# Altium footprint library FQFP (0.5mm Pitch, Square) - Corner Index.PcbLib: 44 footprints (part 3 of 4)
Each footprint in its own frame and in the unit in brackets; x right, y up, seen from the top. Pads: shape width x height; smd on the part's side, far side on the other; paste and mask are expansions set on the pad; w line width, h text height; cw(c..) or ccw(c..) is an arc to the next point about the centre after c.
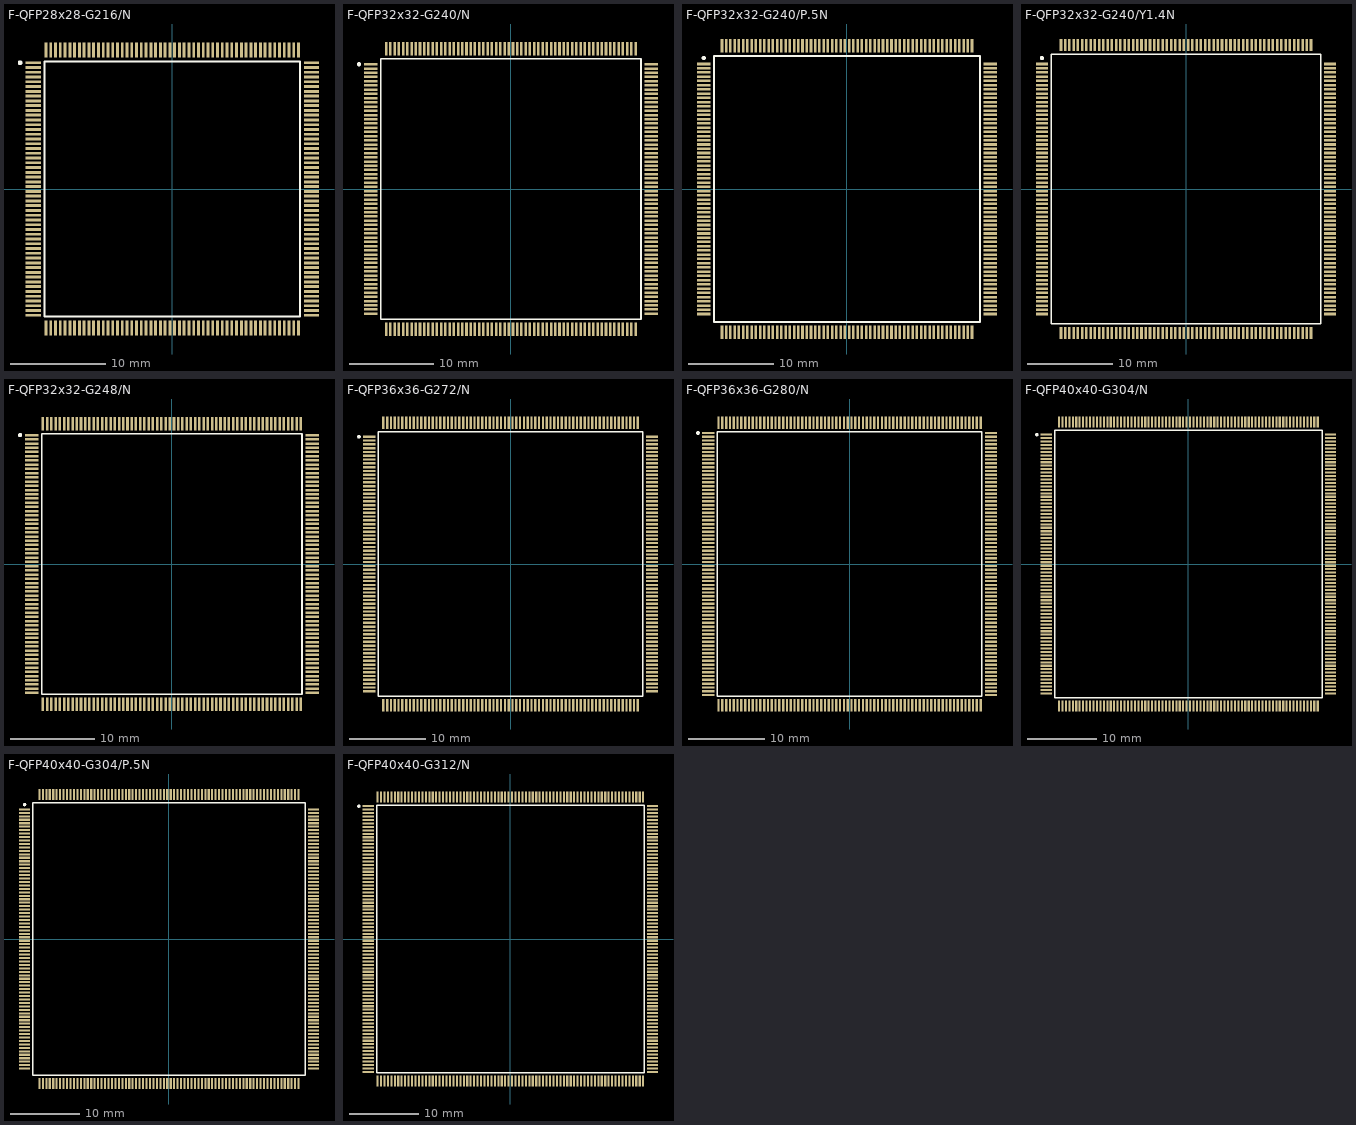
[diagram p2: the footprints below, top view; thin cyan lines are the x and y axes]

## F-QFP28x28-G216/N [mm] "QFP; 216 Leads; Body 28 x 28 mm; Pitch 0.5 mm"
height 3.75
pads (216):
  rect 1.6x0.3 smd: 1(-14.6,13.25) 2(-14.6,12.75) 3(-14.6,12.25) 4(-14.6,11.75) 5(-14.6,11.25) 6(-14.6,10.75) 7(-14.6,10.25) 8(-14.6,9.75) 9(-14.6,9.25) 10(-14.6,8.75) 11(-14.6,8.25) 12(-14.6,7.75) 13(-14.6,7.25) 14(-14.6,6.75) 15(-14.6,6.25) 16(-14.6,5.75) 17(-14.6,5.25) 18(-14.6,4.75) 19(-14.6,4.25) 20(-14.6,3.75) 21(-14.6,3.25) 22(-14.6,2.75) 23(-14.6,2.25) 24(-14.6,1.75) 25(-14.6,1.25) 26(-14.6,0.75) 27(-14.6,0.25) 28(-14.6,-0.25) 29(-14.6,-0.75) 30(-14.6,-1.25) 31(-14.6,-1.75) 32(-14.6,-2.25) 33(-14.6,-2.75) 34(-14.6,-3.25) 35(-14.6,-3.75) 36(-14.6,-4.25) 37(-14.6,-4.75) 38(-14.6,-5.25) 39(-14.6,-5.75) 40(-14.6,-6.25) 41(-14.6,-6.75) 42(-14.6,-7.25) 43(-14.6,-7.75) 44(-14.6,-8.25) 45(-14.6,-8.75) 46(-14.6,-9.25) 47(-14.6,-9.75) 48(-14.6,-10.25) 49(-14.6,-10.75) 50(-14.6,-11.25) 51(-14.6,-11.75) 52(-14.6,-12.25) 53(-14.6,-12.75) 54(-14.6,-13.25) 109(14.6,-13.25) 110(14.6,-12.75) 111(14.6,-12.25) 112(14.6,-11.75) 113(14.6,-11.25) 114(14.6,-10.75) 115(14.6,-10.25) 116(14.6,-9.75) 117(14.6,-9.25) 118(14.6,-8.75) 119(14.6,-8.25) 120(14.6,-7.75) 121(14.6,-7.25) 122(14.6,-6.75) 123(14.6,-6.25) 124(14.6,-5.75) 125(14.6,-5.25) 126(14.6,-4.75) 127(14.6,-4.25) 128(14.6,-3.75) 129(14.6,-3.25) 130(14.6,-2.75) 131(14.6,-2.25) 132(14.6,-1.75) 133(14.6,-1.25) 134(14.6,-0.75) 135(14.6,-0.25) 136(14.6,0.25) 137(14.6,0.75) 138(14.6,1.25) 139(14.6,1.75) 140(14.6,2.25) 141(14.6,2.75) 142(14.6,3.25) 143(14.6,3.75) 144(14.6,4.25) 145(14.6,4.75) 146(14.6,5.25) 147(14.6,5.75) 148(14.6,6.25) 149(14.6,6.75) 150(14.6,7.25) 151(14.6,7.75) 152(14.6,8.25) 153(14.6,8.75) 154(14.6,9.25) 155(14.6,9.75) 156(14.6,10.25) 157(14.6,10.75) 158(14.6,11.25) 159(14.6,11.75) 160(14.6,12.25) 161(14.6,12.75) 162(14.6,13.25)
  rect 0.3x1.6 smd: 55(-13.25,-14.6) 56(-12.75,-14.6) 57(-12.25,-14.6) 58(-11.75,-14.6) 59(-11.25,-14.6) 60(-10.75,-14.6) 61(-10.25,-14.6) 62(-9.75,-14.6) 63(-9.25,-14.6) 64(-8.75,-14.6) 65(-8.25,-14.6) 66(-7.75,-14.6) 67(-7.25,-14.6) 68(-6.75,-14.6) 69(-6.25,-14.6) 70(-5.75,-14.6) 71(-5.25,-14.6) 72(-4.75,-14.6) 73(-4.25,-14.6) 74(-3.75,-14.6) 75(-3.25,-14.6) 76(-2.75,-14.6) 77(-2.25,-14.6) 78(-1.75,-14.6) 79(-1.25,-14.6) 80(-0.75,-14.6) 81(-0.25,-14.6) 82(0.25,-14.6) 83(0.75,-14.6) 84(1.25,-14.6) 85(1.75,-14.6) 86(2.25,-14.6) 87(2.75,-14.6) 88(3.25,-14.6) 89(3.75,-14.6) 90(4.25,-14.6) 91(4.75,-14.6) 92(5.25,-14.6) 93(5.75,-14.6) 94(6.25,-14.6) 95(6.75,-14.6) 96(7.25,-14.6) 97(7.75,-14.6) 98(8.25,-14.6) 99(8.75,-14.6) 100(9.25,-14.6) 101(9.75,-14.6) 102(10.25,-14.6) 103(10.75,-14.6) 104(11.25,-14.6) 105(11.75,-14.6) 106(12.25,-14.6) 107(12.75,-14.6) 108(13.25,-14.6) 163(13.25,14.6) 164(12.75,14.6) 165(12.25,14.6) 166(11.75,14.6) 167(11.25,14.6) 168(10.75,14.6) 169(10.25,14.6) 170(9.75,14.6) 171(9.25,14.6) 172(8.75,14.6) 173(8.25,14.6) 174(7.75,14.6) 175(7.25,14.6) 176(6.75,14.6) 177(6.25,14.6) 178(5.75,14.6) 179(5.25,14.6) 180(4.75,14.6) 181(4.25,14.6) 182(3.75,14.6) 183(3.25,14.6) 184(2.75,14.6) 185(2.25,14.6) 186(1.75,14.6) 187(1.25,14.6) 188(0.75,14.6) 189(0.25,14.6) 190(-0.25,14.6) 191(-0.75,14.6) 192(-1.25,14.6) 193(-1.75,14.6) 194(-2.25,14.6) 195(-2.75,14.6) 196(-3.25,14.6) 197(-3.75,14.6) 198(-4.25,14.6) 199(-4.75,14.6) 200(-5.25,14.6) 201(-5.75,14.6) 202(-6.25,14.6) 203(-6.75,14.6) 204(-7.25,14.6) 205(-7.75,14.6) 206(-8.25,14.6) 207(-8.75,14.6) 208(-9.25,14.6) 209(-9.75,14.6) 210(-10.25,14.6) 211(-10.75,14.6) 212(-11.25,14.6) 213(-11.75,14.6) 214(-12.25,14.6) 215(-12.75,14.6) 216(-13.25,14.6)
Top Overlay:
  circle w0.25: c-15.96,13.25 r0.125
  lines w0.2: -13.4,-13.4 13.4,-13.4 13.4,13.4 -13.4,13.4 -13.4,-13.4

## F-QFP32x32-G240/N [mm] "QFP; 240 Leads; Body 32 x 32 mm; Pitch 0.5 mm"
height 4.2
pads (240):
  rect 1.6x0.3 smd: 1(-16.6,14.75) 2(-16.6,14.25) 3(-16.6,13.75) 4(-16.6,13.25) 5(-16.6,12.75) 6(-16.6,12.25) 7(-16.6,11.75) 8(-16.6,11.25) 9(-16.6,10.75) 10(-16.6,10.25) 11(-16.6,9.75) 12(-16.6,9.25) 13(-16.6,8.75) 14(-16.6,8.25) 15(-16.6,7.75) 16(-16.6,7.25) 17(-16.6,6.75) 18(-16.6,6.25) 19(-16.6,5.75) 20(-16.6,5.25) 21(-16.6,4.75) 22(-16.6,4.25) 23(-16.6,3.75) 24(-16.6,3.25) 25(-16.6,2.75) 26(-16.6,2.25) 27(-16.6,1.75) 28(-16.6,1.25) 29(-16.6,0.75) 30(-16.6,0.25) 31(-16.6,-0.25) 32(-16.6,-0.75) 33(-16.6,-1.25) 34(-16.6,-1.75) 35(-16.6,-2.25) 36(-16.6,-2.75) 37(-16.6,-3.25) 38(-16.6,-3.75) 39(-16.6,-4.25) 40(-16.6,-4.75) 41(-16.6,-5.25) 42(-16.6,-5.75) 43(-16.6,-6.25) 44(-16.6,-6.75) 45(-16.6,-7.25) 46(-16.6,-7.75) 47(-16.6,-8.25) 48(-16.6,-8.75) 49(-16.6,-9.25) 50(-16.6,-9.75) 51(-16.6,-10.25) 52(-16.6,-10.75) 53(-16.6,-11.25) 54(-16.6,-11.75) 55(-16.6,-12.25) 56(-16.6,-12.75) 57(-16.6,-13.25) 58(-16.6,-13.75) 59(-16.6,-14.25) 60(-16.6,-14.75) 121(16.6,-14.75) 122(16.6,-14.25) 123(16.6,-13.75) 124(16.6,-13.25) 125(16.6,-12.75) 126(16.6,-12.25) 127(16.6,-11.75) 128(16.6,-11.25) 129(16.6,-10.75) 130(16.6,-10.25) 131(16.6,-9.75) 132(16.6,-9.25) 133(16.6,-8.75) 134(16.6,-8.25) 135(16.6,-7.75) 136(16.6,-7.25) 137(16.6,-6.75) 138(16.6,-6.25) 139(16.6,-5.75) 140(16.6,-5.25) 141(16.6,-4.75) 142(16.6,-4.25) 143(16.6,-3.75) 144(16.6,-3.25) 145(16.6,-2.75) 146(16.6,-2.25) 147(16.6,-1.75) 148(16.6,-1.25) 149(16.6,-0.75) 150(16.6,-0.25) 151(16.6,0.25) 152(16.6,0.75) 153(16.6,1.25) 154(16.6,1.75) 155(16.6,2.25) 156(16.6,2.75) 157(16.6,3.25) 158(16.6,3.75) 159(16.6,4.25) 160(16.6,4.75) 161(16.6,5.25) 162(16.6,5.75) 163(16.6,6.25) 164(16.6,6.75) 165(16.6,7.25) 166(16.6,7.75) 167(16.6,8.25) 168(16.6,8.75) 169(16.6,9.25) 170(16.6,9.75) 171(16.6,10.25) 172(16.6,10.75) 173(16.6,11.25) 174(16.6,11.75) 175(16.6,12.25) 176(16.6,12.75) 177(16.6,13.25) 178(16.6,13.75) 179(16.6,14.25) 180(16.6,14.75)
  rect 0.3x1.6 smd: 61(-14.75,-16.6) 62(-14.25,-16.6) 63(-13.75,-16.6) 64(-13.25,-16.6) 65(-12.75,-16.6) 66(-12.25,-16.6) 67(-11.75,-16.6) 68(-11.25,-16.6) 69(-10.75,-16.6) 70(-10.25,-16.6) 71(-9.75,-16.6) 72(-9.25,-16.6) 73(-8.75,-16.6) 74(-8.25,-16.6) 75(-7.75,-16.6) 76(-7.25,-16.6) 77(-6.75,-16.6) 78(-6.25,-16.6) 79(-5.75,-16.6) 80(-5.25,-16.6) 81(-4.75,-16.6) 82(-4.25,-16.6) 83(-3.75,-16.6) 84(-3.25,-16.6) 85(-2.75,-16.6) 86(-2.25,-16.6) 87(-1.75,-16.6) 88(-1.25,-16.6) 89(-0.75,-16.6) 90(-0.25,-16.6) 91(0.25,-16.6) 92(0.75,-16.6) 93(1.25,-16.6) 94(1.75,-16.6) 95(2.25,-16.6) 96(2.75,-16.6) 97(3.25,-16.6) 98(3.75,-16.6) 99(4.25,-16.6) 100(4.75,-16.6) 101(5.25,-16.6) 102(5.75,-16.6) 103(6.25,-16.6) 104(6.75,-16.6) 105(7.25,-16.6) 106(7.75,-16.6) 107(8.25,-16.6) 108(8.75,-16.6) 109(9.25,-16.6) 110(9.75,-16.6) 111(10.25,-16.6) 112(10.75,-16.6) 113(11.25,-16.6) 114(11.75,-16.6) 115(12.25,-16.6) 116(12.75,-16.6) 117(13.25,-16.6) 118(13.75,-16.6) 119(14.25,-16.6) 120(14.75,-16.6) 181(14.75,16.6) 182(14.25,16.6) 183(13.75,16.6) 184(13.25,16.6) 185(12.75,16.6) 186(12.25,16.6) 187(11.75,16.6) 188(11.25,16.6) 189(10.75,16.6) 190(10.25,16.6) 191(9.75,16.6) 192(9.25,16.6) 193(8.75,16.6) 194(8.25,16.6) 195(7.75,16.6) 196(7.25,16.6) 197(6.75,16.6) 198(6.25,16.6) 199(5.75,16.6) 200(5.25,16.6) 201(4.75,16.6) 202(4.25,16.6) 203(3.75,16.6) 204(3.25,16.6) 205(2.75,16.6) 206(2.25,16.6) 207(1.75,16.6) 208(1.25,16.6) 209(0.75,16.6) 210(0.25,16.6) 211(-0.25,16.6) 212(-0.75,16.6) 213(-1.25,16.6) 214(-1.75,16.6) 215(-2.25,16.6) 216(-2.75,16.6) 217(-3.25,16.6) 218(-3.75,16.6) 219(-4.25,16.6) 220(-4.75,16.6) 221(-5.25,16.6) 222(-5.75,16.6) 223(-6.25,16.6) 224(-6.75,16.6) 225(-7.25,16.6) 226(-7.75,16.6) 227(-8.25,16.6) 228(-8.75,16.6) 229(-9.25,16.6) 230(-9.75,16.6) 231(-10.25,16.6) 232(-10.75,16.6) 233(-11.25,16.6) 234(-11.75,16.6) 235(-12.25,16.6) 236(-12.75,16.6) 237(-13.25,16.6) 238(-13.75,16.6) 239(-14.25,16.6) 240(-14.75,16.6)
Top Overlay:
  circle w0.25: c-17.96,14.75 r0.125
  lines w0.2: -15.4,-15.4 -15.4,15.4 15.4,15.4 15.4,-15.4 -15.4,-15.4

## F-QFP32x32-G240/P.5N [mm] "240-Pin Plastic Quad Flat Pack (PQFP)"
height 4.1
pads (240):
  rect 1.6x0.3 smd: 1(-16.9,14.75) 2(-16.9,14.25) 3(-16.9,13.75) 4(-16.9,13.25) 5(-16.9,12.75) 6(-16.9,12.25) 7(-16.9,11.75) 8(-16.9,11.25) 9(-16.9,10.75) 10(-16.9,10.25) 11(-16.9,9.75) 12(-16.9,9.25) 13(-16.9,8.75) 14(-16.9,8.25) 15(-16.9,7.75) 16(-16.9,7.25) 17(-16.9,6.75) 18(-16.9,6.25) 19(-16.9,5.75) 20(-16.9,5.25) 21(-16.9,4.75) 22(-16.9,4.25) 23(-16.9,3.75) 24(-16.9,3.25) 25(-16.9,2.75) 26(-16.9,2.25) 27(-16.9,1.75) 28(-16.9,1.25) 29(-16.9,0.75) 30(-16.9,0.25) 31(-16.9,-0.25) 32(-16.9,-0.75) 33(-16.9,-1.25) 34(-16.9,-1.75) 35(-16.9,-2.25) 36(-16.9,-2.75) 37(-16.9,-3.25) 38(-16.9,-3.75) 39(-16.9,-4.25) 40(-16.9,-4.75) 41(-16.9,-5.25) 42(-16.9,-5.75) 43(-16.9,-6.25) 44(-16.9,-6.75) 45(-16.9,-7.25) 46(-16.9,-7.75) 47(-16.9,-8.25) 48(-16.9,-8.75) 49(-16.9,-9.25) 50(-16.9,-9.75) 51(-16.9,-10.25) 52(-16.9,-10.75) 53(-16.9,-11.25) 54(-16.9,-11.75) 55(-16.9,-12.25) 56(-16.9,-12.75) 57(-16.9,-13.25) 58(-16.9,-13.75) 59(-16.9,-14.25) 60(-16.9,-14.75) 121(16.9,-14.75) 122(16.9,-14.25) 123(16.9,-13.75) 124(16.9,-13.25) 125(16.9,-12.75) 126(16.9,-12.25) 127(16.9,-11.75) 128(16.9,-11.25) 129(16.9,-10.75) 130(16.9,-10.25) 131(16.9,-9.75) 132(16.9,-9.25) 133(16.9,-8.75) 134(16.9,-8.25) 135(16.9,-7.75) 136(16.9,-7.25) 137(16.9,-6.75) 138(16.9,-6.25) 139(16.9,-5.75) 140(16.9,-5.25) 141(16.9,-4.75) 142(16.9,-4.25) 143(16.9,-3.75) 144(16.9,-3.25) 145(16.9,-2.75) 146(16.9,-2.25) 147(16.9,-1.75) 148(16.9,-1.25) 149(16.9,-0.75) 150(16.9,-0.25) 151(16.9,0.25) 152(16.9,0.75) 153(16.9,1.25) 154(16.9,1.75) 155(16.9,2.25) 156(16.9,2.75) 157(16.9,3.25) 158(16.9,3.75) 159(16.9,4.25) 160(16.9,4.75) 161(16.9,5.25) 162(16.9,5.75) 163(16.9,6.25) 164(16.9,6.75) 165(16.9,7.25) 166(16.9,7.75) 167(16.9,8.25) 168(16.9,8.75) 169(16.9,9.25) 170(16.9,9.75) 171(16.9,10.25) 172(16.9,10.75) 173(16.9,11.25) 174(16.9,11.75) 175(16.9,12.25) 176(16.9,12.75) 177(16.9,13.25) 178(16.9,13.75) 179(16.9,14.25) 180(16.9,14.75)
  rect 0.3x1.6 smd: 61(-14.75,-16.9) 62(-14.25,-16.9) 63(-13.75,-16.9) 64(-13.25,-16.9) 65(-12.75,-16.9) 66(-12.25,-16.9) 67(-11.75,-16.9) 68(-11.25,-16.9) 69(-10.75,-16.9) 70(-10.25,-16.9) 71(-9.75,-16.9) 72(-9.25,-16.9) 73(-8.75,-16.9) 74(-8.25,-16.9) 75(-7.75,-16.9) 76(-7.25,-16.9) 77(-6.75,-16.9) 78(-6.25,-16.9) 79(-5.75,-16.9) 80(-5.25,-16.9) 81(-4.75,-16.9) 82(-4.25,-16.9) 83(-3.75,-16.9) 84(-3.25,-16.9) 85(-2.75,-16.9) 86(-2.25,-16.9) 87(-1.75,-16.9) 88(-1.25,-16.9) 89(-0.75,-16.9) 90(-0.25,-16.9) 91(0.25,-16.9) 92(0.75,-16.9) 93(1.25,-16.9) 94(1.75,-16.9) 95(2.25,-16.9) 96(2.75,-16.9) 97(3.25,-16.9) 98(3.75,-16.9) 99(4.25,-16.9) 100(4.75,-16.9) 101(5.25,-16.9) 102(5.75,-16.9) 103(6.25,-16.9) 104(6.75,-16.9) 105(7.25,-16.9) 106(7.75,-16.9) 107(8.25,-16.9) 108(8.75,-16.9) 109(9.25,-16.9) 110(9.75,-16.9) 111(10.25,-16.9) 112(10.75,-16.9) 113(11.25,-16.9) 114(11.75,-16.9) 115(12.25,-16.9) 116(12.75,-16.9) 117(13.25,-16.9) 118(13.75,-16.9) 119(14.25,-16.9) 120(14.75,-16.9) 181(14.75,16.9) 182(14.25,16.9) 183(13.75,16.9) 184(13.25,16.9) 185(12.75,16.9) 186(12.25,16.9) 187(11.75,16.9) 188(11.25,16.9) 189(10.75,16.9) 190(10.25,16.9) 191(9.75,16.9) 192(9.25,16.9) 193(8.75,16.9) 194(8.25,16.9) 195(7.75,16.9) 196(7.25,16.9) 197(6.75,16.9) 198(6.25,16.9) 199(5.75,16.9) 200(5.25,16.9) 201(4.75,16.9) 202(4.25,16.9) 203(3.75,16.9) 204(3.25,16.9) 205(2.75,16.9) 206(2.25,16.9) 207(1.75,16.9) 208(1.25,16.9) 209(0.75,16.9) 210(0.25,16.9) 211(-0.25,16.9) 212(-0.75,16.9) 213(-1.25,16.9) 214(-1.75,16.9) 215(-2.25,16.9) 216(-2.75,16.9) 217(-3.25,16.9) 218(-3.75,16.9) 219(-4.25,16.9) 220(-4.75,16.9) 221(-5.25,16.9) 222(-5.75,16.9) 223(-6.25,16.9) 224(-6.75,16.9) 225(-7.25,16.9) 226(-7.75,16.9) 227(-8.25,16.9) 228(-8.75,16.9) 229(-9.25,16.9) 230(-9.75,16.9) 231(-10.25,16.9) 232(-10.75,16.9) 233(-11.25,16.9) 234(-11.75,16.9) 235(-12.25,16.9) 236(-12.75,16.9) 237(-13.25,16.9) 238(-13.75,16.9) 239(-14.25,16.9) 240(-14.75,16.9)
Top Overlay:
  circle w0.25: c-16.9,15.45 r0.125
  lines w0.2: -15.7,-15.7 15.7,-15.7 15.7,15.7 -15.7,15.7 -15.7,-15.7

## F-QFP32x32-G240/Y1.4N [mm] "QFP; 240 Leads; Body 31.3 x 31.3 mm; Pitch 0.5 mm"
height 4.15
pads (240):
  rect 1.4x0.3 smd: 1(-17,14.75) 2(-17,14.25) 3(-17,13.75) 4(-17,13.25) 5(-17,12.75) 6(-17,12.25) 7(-17,11.75) 8(-17,11.25) 9(-17,10.75) 10(-17,10.25) 11(-17,9.75) 12(-17,9.25) 13(-17,8.75) 14(-17,8.25) 15(-17,7.75) 16(-17,7.25) 17(-17,6.75) 18(-17,6.25) 19(-17,5.75) 20(-17,5.25) 21(-17,4.75) 22(-17,4.25) 23(-17,3.75) 24(-17,3.25) 25(-17,2.75) 26(-17,2.25) 27(-17,1.75) 28(-17,1.25) 29(-17,0.75) 30(-17,0.25) 31(-17,-0.25) 32(-17,-0.75) 33(-17,-1.25) 34(-17,-1.75) 35(-17,-2.25) 36(-17,-2.75) 37(-17,-3.25) 38(-17,-3.75) 39(-17,-4.25) 40(-17,-4.75) 41(-17,-5.25) 42(-17,-5.75) 43(-17,-6.25) 44(-17,-6.75) 45(-17,-7.25) 46(-17,-7.75) 47(-17,-8.25) 48(-17,-8.75) 49(-17,-9.25) 50(-17,-9.75) 51(-17,-10.25) 52(-17,-10.75) 53(-17,-11.25) 54(-17,-11.75) 55(-17,-12.25) 56(-17,-12.75) 57(-17,-13.25) 58(-17,-13.75) 59(-17,-14.25) 60(-17,-14.75) 121(17,-14.75) 122(17,-14.25) 123(17,-13.75) 124(17,-13.25) 125(17,-12.75) 126(17,-12.25) 127(17,-11.75) 128(17,-11.25) 129(17,-10.75) 130(17,-10.25) 131(17,-9.75) 132(17,-9.25) 133(17,-8.75) 134(17,-8.25) 135(17,-7.75) 136(17,-7.25) 137(17,-6.75) 138(17,-6.25) 139(17,-5.75) 140(17,-5.25) 141(17,-4.75) 142(17,-4.25) 143(17,-3.75) 144(17,-3.25) 145(17,-2.75) 146(17,-2.25) 147(17,-1.75) 148(17,-1.25) 149(17,-0.75) 150(17,-0.25) 151(17,0.25) 152(17,0.75) 153(17,1.25) 154(17,1.75) 155(17,2.25) 156(17,2.75) 157(17,3.25) 158(17,3.75) 159(17,4.25) 160(17,4.75) 161(17,5.25) 162(17,5.75) 163(17,6.25) 164(17,6.75) 165(17,7.25) 166(17,7.75) 167(17,8.25) 168(17,8.75) 169(17,9.25) 170(17,9.75) 171(17,10.25) 172(17,10.75) 173(17,11.25) 174(17,11.75) 175(17,12.25) 176(17,12.75) 177(17,13.25) 178(17,13.75) 179(17,14.25) 180(17,14.75)
  rect 0.3x1.4 smd: 61(-14.75,-17) 62(-14.25,-17) 63(-13.75,-17) 64(-13.25,-17) 65(-12.75,-17) 66(-12.25,-17) 67(-11.75,-17) 68(-11.25,-17) 69(-10.75,-17) 70(-10.25,-17) 71(-9.75,-17) 72(-9.25,-17) 73(-8.75,-17) 74(-8.25,-17) 75(-7.75,-17) 76(-7.25,-17) 77(-6.75,-17) 78(-6.25,-17) 79(-5.75,-17) 80(-5.25,-17) 81(-4.75,-17) 82(-4.25,-17) 83(-3.75,-17) 84(-3.25,-17) 85(-2.75,-17) 86(-2.25,-17) 87(-1.75,-17) 88(-1.25,-17) 89(-0.75,-17) 90(-0.25,-17) 91(0.25,-17) 92(0.75,-17) 93(1.25,-17) 94(1.75,-17) 95(2.25,-17) 96(2.75,-17) 97(3.25,-17) 98(3.75,-17) 99(4.25,-17) 100(4.75,-17) 101(5.25,-17) 102(5.75,-17) 103(6.25,-17) 104(6.75,-17) 105(7.25,-17) 106(7.75,-17) 107(8.25,-17) 108(8.75,-17) 109(9.25,-17) 110(9.75,-17) 111(10.25,-17) 112(10.75,-17) 113(11.25,-17) 114(11.75,-17) 115(12.25,-17) 116(12.75,-17) 117(13.25,-17) 118(13.75,-17) 119(14.25,-17) 120(14.75,-17) 181(14.75,17) 182(14.25,17) 183(13.75,17) 184(13.25,17) 185(12.75,17) 186(12.25,17) 187(11.75,17) 188(11.25,17) 189(10.75,17) 190(10.25,17) 191(9.75,17) 192(9.25,17) 193(8.75,17) 194(8.25,17) 195(7.75,17) 196(7.25,17) 197(6.75,17) 198(6.25,17) 199(5.75,17) 200(5.25,17) 201(4.75,17) 202(4.25,17) 203(3.75,17) 204(3.25,17) 205(2.75,17) 206(2.25,17) 207(1.75,17) 208(1.25,17) 209(0.75,17) 210(0.25,17) 211(-0.25,17) 212(-0.75,17) 213(-1.25,17) 214(-1.75,17) 215(-2.25,17) 216(-2.75,17) 217(-3.25,17) 218(-3.75,17) 219(-4.25,17) 220(-4.75,17) 221(-5.25,17) 222(-5.75,17) 223(-6.25,17) 224(-6.75,17) 225(-7.25,17) 226(-7.75,17) 227(-8.25,17) 228(-8.75,17) 229(-9.25,17) 230(-9.75,17) 231(-10.25,17) 232(-10.75,17) 233(-11.25,17) 234(-11.75,17) 235(-12.25,17) 236(-12.75,17) 237(-13.25,17) 238(-13.75,17) 239(-14.25,17) 240(-14.75,17)
Top Overlay:
  circle w0.25: c-17,15.45 r0.125
  lines w0.2: -15.9,-15.9 -15.9,15.9 15.9,15.9 15.9,-15.9 -15.9,-15.9

## F-QFP32x32-G248/N [mm] "QFP; 248 Leads; Body 32 x 32 mm; Pitch 0.5 mm"
height 4.2
pads (248):
  rect 1.6x0.3 smd: 1(-16.6,15.25) 2(-16.6,14.75) 3(-16.6,14.25) 4(-16.6,13.75) 5(-16.6,13.25) 6(-16.6,12.75) 7(-16.6,12.25) 8(-16.6,11.75) 9(-16.6,11.25) 10(-16.6,10.75) 11(-16.6,10.25) 12(-16.6,9.75) 13(-16.6,9.25) 14(-16.6,8.75) 15(-16.6,8.25) 16(-16.6,7.75) 17(-16.6,7.25) 18(-16.6,6.75) 19(-16.6,6.25) 20(-16.6,5.75) 21(-16.6,5.25) 22(-16.6,4.75) 23(-16.6,4.25) 24(-16.6,3.75) 25(-16.6,3.25) 26(-16.6,2.75) 27(-16.6,2.25) 28(-16.6,1.75) 29(-16.6,1.25) 30(-16.6,0.75) 31(-16.6,0.25) 32(-16.6,-0.25) 33(-16.6,-0.75) 34(-16.6,-1.25) 35(-16.6,-1.75) 36(-16.6,-2.25) 37(-16.6,-2.75) 38(-16.6,-3.25) 39(-16.6,-3.75) 40(-16.6,-4.25) 41(-16.6,-4.75) 42(-16.6,-5.25) 43(-16.6,-5.75) 44(-16.6,-6.25) 45(-16.6,-6.75) 46(-16.6,-7.25) 47(-16.6,-7.75) 48(-16.6,-8.25) 49(-16.6,-8.75) 50(-16.6,-9.25) 51(-16.6,-9.75) 52(-16.6,-10.25) 53(-16.6,-10.75) 54(-16.6,-11.25) 55(-16.6,-11.75) 56(-16.6,-12.25) 57(-16.6,-12.75) 58(-16.6,-13.25) 59(-16.6,-13.75) 60(-16.6,-14.25) 61(-16.6,-14.75) 62(-16.6,-15.25) 125(16.6,-15.25) 126(16.6,-14.75) 127(16.6,-14.25) 128(16.6,-13.75) 129(16.6,-13.25) 130(16.6,-12.75) 131(16.6,-12.25) 132(16.6,-11.75) 133(16.6,-11.25) 134(16.6,-10.75) 135(16.6,-10.25) 136(16.6,-9.75) 137(16.6,-9.25) 138(16.6,-8.75) 139(16.6,-8.25) 140(16.6,-7.75) 141(16.6,-7.25) 142(16.6,-6.75) 143(16.6,-6.25) 144(16.6,-5.75) 145(16.6,-5.25) 146(16.6,-4.75) 147(16.6,-4.25) 148(16.6,-3.75) 149(16.6,-3.25) 150(16.6,-2.75) 151(16.6,-2.25) 152(16.6,-1.75) 153(16.6,-1.25) 154(16.6,-0.75) 155(16.6,-0.25) 156(16.6,0.25) 157(16.6,0.75) 158(16.6,1.25) 159(16.6,1.75) 160(16.6,2.25) 161(16.6,2.75) 162(16.6,3.25) 163(16.6,3.75) 164(16.6,4.25) 165(16.6,4.75) 166(16.6,5.25) 167(16.6,5.75) 168(16.6,6.25) 169(16.6,6.75) 170(16.6,7.25) 171(16.6,7.75) 172(16.6,8.25) 173(16.6,8.75) 174(16.6,9.25) 175(16.6,9.75) 176(16.6,10.25) 177(16.6,10.75) 178(16.6,11.25) 179(16.6,11.75) 180(16.6,12.25) 181(16.6,12.75) 182(16.6,13.25) 183(16.6,13.75) 184(16.6,14.25) 185(16.6,14.75) 186(16.6,15.25)
  rect 0.3x1.6 smd: 63(-15.25,-16.6) 64(-14.75,-16.6) 65(-14.25,-16.6) 66(-13.75,-16.6) 67(-13.25,-16.6) 68(-12.75,-16.6) 69(-12.25,-16.6) 70(-11.75,-16.6) 71(-11.25,-16.6) 72(-10.75,-16.6) 73(-10.25,-16.6) 74(-9.75,-16.6) 75(-9.25,-16.6) 76(-8.75,-16.6) 77(-8.25,-16.6) 78(-7.75,-16.6) 79(-7.25,-16.6) 80(-6.75,-16.6) 81(-6.25,-16.6) 82(-5.75,-16.6) 83(-5.25,-16.6) 84(-4.75,-16.6) 85(-4.25,-16.6) 86(-3.75,-16.6) 87(-3.25,-16.6) 88(-2.75,-16.6) 89(-2.25,-16.6) 90(-1.75,-16.6) 91(-1.25,-16.6) 92(-0.75,-16.6) 93(-0.25,-16.6) 94(0.25,-16.6) 95(0.75,-16.6) 96(1.25,-16.6) 97(1.75,-16.6) 98(2.25,-16.6) 99(2.75,-16.6) 100(3.25,-16.6) 101(3.75,-16.6) 102(4.25,-16.6) 103(4.75,-16.6) 104(5.25,-16.6) 105(5.75,-16.6) 106(6.25,-16.6) 107(6.75,-16.6) 108(7.25,-16.6) 109(7.75,-16.6) 110(8.25,-16.6) 111(8.75,-16.6) 112(9.25,-16.6) 113(9.75,-16.6) 114(10.25,-16.6) 115(10.75,-16.6) 116(11.25,-16.6) 117(11.75,-16.6) 118(12.25,-16.6) 119(12.75,-16.6) 120(13.25,-16.6) 121(13.75,-16.6) 122(14.25,-16.6) 123(14.75,-16.6) 124(15.25,-16.6) 187(15.25,16.6) 188(14.75,16.6) 189(14.25,16.6) 190(13.75,16.6) 191(13.25,16.6) 192(12.75,16.6) 193(12.25,16.6) 194(11.75,16.6) 195(11.25,16.6) 196(10.75,16.6) 197(10.25,16.6) 198(9.75,16.6) 199(9.25,16.6) 200(8.75,16.6) 201(8.25,16.6) 202(7.75,16.6) 203(7.25,16.6) 204(6.75,16.6) 205(6.25,16.6) 206(5.75,16.6) 207(5.25,16.6) 208(4.75,16.6) 209(4.25,16.6) 210(3.75,16.6) 211(3.25,16.6) 212(2.75,16.6) 213(2.25,16.6) 214(1.75,16.6) 215(1.25,16.6) 216(0.75,16.6) 217(0.25,16.6) 218(-0.25,16.6) 219(-0.75,16.6) 220(-1.25,16.6) 221(-1.75,16.6) 222(-2.25,16.6) 223(-2.75,16.6) 224(-3.25,16.6) 225(-3.75,16.6) 226(-4.25,16.6) 227(-4.75,16.6) 228(-5.25,16.6) 229(-5.75,16.6) 230(-6.25,16.6) 231(-6.75,16.6) 232(-7.25,16.6) 233(-7.75,16.6) 234(-8.25,16.6) 235(-8.75,16.6) 236(-9.25,16.6) 237(-9.75,16.6) 238(-10.25,16.6) 239(-10.75,16.6) 240(-11.25,16.6) 241(-11.75,16.6) 242(-12.25,16.6) 243(-12.75,16.6) 244(-13.25,16.6) 245(-13.75,16.6) 246(-14.25,16.6) 247(-14.75,16.6) 248(-15.25,16.6)
Top Overlay:
  circle w0.25: c-17.96,15.25 r0.125
  lines w0.2: -15.4,-15.4 -15.4,15.4 15.4,15.4 15.4,-15.4 -15.4,-15.4

## F-QFP36x36-G272/N [mm] "QFP; 272 Leads; Body 36 x 36 mm; Pitch 0.5 mm"
height 4.2
pads (272):
  rect 1.6x0.3 smd: 1(-18.6,16.75) 2(-18.6,16.25) 3(-18.6,15.75) 4(-18.6,15.25) 5(-18.6,14.75) 6(-18.6,14.25) 7(-18.6,13.75) 8(-18.6,13.25) 9(-18.6,12.75) 10(-18.6,12.25) 11(-18.6,11.75) 12(-18.6,11.25) 13(-18.6,10.75) 14(-18.6,10.25) 15(-18.6,9.75) 16(-18.6,9.25) 17(-18.6,8.75) 18(-18.6,8.25) 19(-18.6,7.75) 20(-18.6,7.25) 21(-18.6,6.75) 22(-18.6,6.25) 23(-18.6,5.75) 24(-18.6,5.25) 25(-18.6,4.75) 26(-18.6,4.25) 27(-18.6,3.75) 28(-18.6,3.25) 29(-18.6,2.75) 30(-18.6,2.25) 31(-18.6,1.75) 32(-18.6,1.25) 33(-18.6,0.75) 34(-18.6,0.25) 35(-18.6,-0.25) 36(-18.6,-0.75) 37(-18.6,-1.25) 38(-18.6,-1.75) 39(-18.6,-2.25) 40(-18.6,-2.75) 41(-18.6,-3.25) 42(-18.6,-3.75) 43(-18.6,-4.25) 44(-18.6,-4.75) 45(-18.6,-5.25) 46(-18.6,-5.75) 47(-18.6,-6.25) 48(-18.6,-6.75) 49(-18.6,-7.25) 50(-18.6,-7.75) 51(-18.6,-8.25) 52(-18.6,-8.75) 53(-18.6,-9.25) 54(-18.6,-9.75) 55(-18.6,-10.25) 56(-18.6,-10.75) 57(-18.6,-11.25) 58(-18.6,-11.75) 59(-18.6,-12.25) 60(-18.6,-12.75) 61(-18.6,-13.25) 62(-18.6,-13.75) 63(-18.6,-14.25) 64(-18.6,-14.75) 65(-18.6,-15.25) 66(-18.6,-15.75) 67(-18.6,-16.25) 68(-18.6,-16.75) 137(18.6,-16.75) 138(18.6,-16.25) 139(18.6,-15.75) 140(18.6,-15.25) 141(18.6,-14.75) 142(18.6,-14.25) 143(18.6,-13.75) 144(18.6,-13.25) 145(18.6,-12.75) 146(18.6,-12.25) 147(18.6,-11.75) 148(18.6,-11.25) 149(18.6,-10.75) 150(18.6,-10.25) 151(18.6,-9.75) 152(18.6,-9.25) 153(18.6,-8.75) 154(18.6,-8.25) 155(18.6,-7.75) 156(18.6,-7.25) 157(18.6,-6.75) 158(18.6,-6.25) 159(18.6,-5.75) 160(18.6,-5.25) 161(18.6,-4.75) 162(18.6,-4.25) 163(18.6,-3.75) 164(18.6,-3.25) 165(18.6,-2.75) 166(18.6,-2.25) 167(18.6,-1.75) 168(18.6,-1.25) 169(18.6,-0.75) 170(18.6,-0.25) 171(18.6,0.25) 172(18.6,0.75) 173(18.6,1.25) 174(18.6,1.75) 175(18.6,2.25) 176(18.6,2.75) 177(18.6,3.25) 178(18.6,3.75) 179(18.6,4.25) 180(18.6,4.75) 181(18.6,5.25) 182(18.6,5.75) 183(18.6,6.25) 184(18.6,6.75) 185(18.6,7.25) 186(18.6,7.75) 187(18.6,8.25) 188(18.6,8.75) 189(18.6,9.25) 190(18.6,9.75) 191(18.6,10.25) 192(18.6,10.75) 193(18.6,11.25) 194(18.6,11.75) 195(18.6,12.25) 196(18.6,12.75) 197(18.6,13.25) 198(18.6,13.75) 199(18.6,14.25) 200(18.6,14.75) 201(18.6,15.25) 202(18.6,15.75) 203(18.6,16.25) 204(18.6,16.75)
  rect 0.3x1.6 smd: 69(-16.75,-18.6) 70(-16.25,-18.6) 71(-15.75,-18.6) 72(-15.25,-18.6) 73(-14.75,-18.6) 74(-14.25,-18.6) 75(-13.75,-18.6) 76(-13.25,-18.6) 77(-12.75,-18.6) 78(-12.25,-18.6) 79(-11.75,-18.6) 80(-11.25,-18.6) 81(-10.75,-18.6) 82(-10.25,-18.6) 83(-9.75,-18.6) 84(-9.25,-18.6) 85(-8.75,-18.6) 86(-8.25,-18.6) 87(-7.75,-18.6) 88(-7.25,-18.6) 89(-6.75,-18.6) 90(-6.25,-18.6) 91(-5.75,-18.6) 92(-5.25,-18.6) 93(-4.75,-18.6) 94(-4.25,-18.6) 95(-3.75,-18.6) 96(-3.25,-18.6) 97(-2.75,-18.6) 98(-2.25,-18.6) 99(-1.75,-18.6) 100(-1.25,-18.6) 101(-0.75,-18.6) 102(-0.25,-18.6) 103(0.25,-18.6) 104(0.75,-18.6) 105(1.25,-18.6) 106(1.75,-18.6) 107(2.25,-18.6) 108(2.75,-18.6) 109(3.25,-18.6) 110(3.75,-18.6) 111(4.25,-18.6) 112(4.75,-18.6) 113(5.25,-18.6) 114(5.75,-18.6) 115(6.25,-18.6) 116(6.75,-18.6) 117(7.25,-18.6) 118(7.75,-18.6) 119(8.25,-18.6) 120(8.75,-18.6) 121(9.25,-18.6) 122(9.75,-18.6) 123(10.25,-18.6) 124(10.75,-18.6) 125(11.25,-18.6) 126(11.75,-18.6) 127(12.25,-18.6) 128(12.75,-18.6) 129(13.25,-18.6) 130(13.75,-18.6) 131(14.25,-18.6) 132(14.75,-18.6) 133(15.25,-18.6) 134(15.75,-18.6) 135(16.25,-18.6) 136(16.75,-18.6) 205(16.75,18.6) 206(16.25,18.6) 207(15.75,18.6) 208(15.25,18.6) 209(14.75,18.6) 210(14.25,18.6) 211(13.75,18.6) 212(13.25,18.6) 213(12.75,18.6) 214(12.25,18.6) 215(11.75,18.6) 216(11.25,18.6) 217(10.75,18.6) 218(10.25,18.6) 219(9.75,18.6) 220(9.25,18.6) 221(8.75,18.6) 222(8.25,18.6) 223(7.75,18.6) 224(7.25,18.6) 225(6.75,18.6) 226(6.25,18.6) 227(5.75,18.6) 228(5.25,18.6) 229(4.75,18.6) 230(4.25,18.6) 231(3.75,18.6) 232(3.25,18.6) 233(2.75,18.6) 234(2.25,18.6) 235(1.75,18.6) 236(1.25,18.6) 237(0.75,18.6) 238(0.25,18.6) 239(-0.25,18.6) 240(-0.75,18.6) 241(-1.25,18.6) 242(-1.75,18.6) 243(-2.25,18.6) 244(-2.75,18.6) 245(-3.25,18.6) 246(-3.75,18.6) 247(-4.25,18.6) 248(-4.75,18.6) 249(-5.25,18.6) 250(-5.75,18.6) 251(-6.25,18.6) 252(-6.75,18.6) 253(-7.25,18.6) 254(-7.75,18.6) 255(-8.25,18.6) 256(-8.75,18.6) 257(-9.25,18.6) 258(-9.75,18.6) 259(-10.25,18.6) 260(-10.75,18.6) 261(-11.25,18.6) 262(-11.75,18.6) 263(-12.25,18.6) 264(-12.75,18.6) 265(-13.25,18.6) 266(-13.75,18.6) 267(-14.25,18.6) 268(-14.75,18.6) 269(-15.25,18.6) 270(-15.75,18.6) 271(-16.25,18.6) 272(-16.75,18.6)
Top Overlay:
  circle w0.25: c-19.96,16.75 r0.125
  lines w0.2: -17.4,-17.4 17.4,-17.4 17.4,17.4 -17.4,17.4 -17.4,-17.4

## F-QFP36x36-G280/N [mm] "QFP; 280 Leads; Body 36 x 36 mm; Pitch 0.5 mm"
height 4.2
pads (280):
  rect 1.6x0.3 smd: 1(-18.6,17.25) 2(-18.6,16.75) 3(-18.6,16.25) 4(-18.6,15.75) 5(-18.6,15.25) 6(-18.6,14.75) 7(-18.6,14.25) 8(-18.6,13.75) 9(-18.6,13.25) 10(-18.6,12.75) 11(-18.6,12.25) 12(-18.6,11.75) 13(-18.6,11.25) 14(-18.6,10.75) 15(-18.6,10.25) 16(-18.6,9.75) 17(-18.6,9.25) 18(-18.6,8.75) 19(-18.6,8.25) 20(-18.6,7.75) 21(-18.6,7.25) 22(-18.6,6.75) 23(-18.6,6.25) 24(-18.6,5.75) 25(-18.6,5.25) 26(-18.6,4.75) 27(-18.6,4.25) 28(-18.6,3.75) 29(-18.6,3.25) 30(-18.6,2.75) 31(-18.6,2.25) 32(-18.6,1.75) 33(-18.6,1.25) 34(-18.6,0.75) 35(-18.6,0.25) 36(-18.6,-0.25) 37(-18.6,-0.75) 38(-18.6,-1.25) 39(-18.6,-1.75) 40(-18.6,-2.25) 41(-18.6,-2.75) 42(-18.6,-3.25) 43(-18.6,-3.75) 44(-18.6,-4.25) 45(-18.6,-4.75) 46(-18.6,-5.25) 47(-18.6,-5.75) 48(-18.6,-6.25) 49(-18.6,-6.75) 50(-18.6,-7.25) 51(-18.6,-7.75) 52(-18.6,-8.25) 53(-18.6,-8.75) 54(-18.6,-9.25) 55(-18.6,-9.75) 56(-18.6,-10.25) 57(-18.6,-10.75) 58(-18.6,-11.25) 59(-18.6,-11.75) 60(-18.6,-12.25) 61(-18.6,-12.75) 62(-18.6,-13.25) 63(-18.6,-13.75) 64(-18.6,-14.25) 65(-18.6,-14.75) 66(-18.6,-15.25) 67(-18.6,-15.75) 68(-18.6,-16.25) 69(-18.6,-16.75) 70(-18.6,-17.25) 141(18.6,-17.25) 142(18.6,-16.75) 143(18.6,-16.25) 144(18.6,-15.75) 145(18.6,-15.25) 146(18.6,-14.75) 147(18.6,-14.25) 148(18.6,-13.75) 149(18.6,-13.25) 150(18.6,-12.75) 151(18.6,-12.25) 152(18.6,-11.75) 153(18.6,-11.25) 154(18.6,-10.75) 155(18.6,-10.25) 156(18.6,-9.75) 157(18.6,-9.25) 158(18.6,-8.75) 159(18.6,-8.25) 160(18.6,-7.75) 161(18.6,-7.25) 162(18.6,-6.75) 163(18.6,-6.25) 164(18.6,-5.75) 165(18.6,-5.25) 166(18.6,-4.75) 167(18.6,-4.25) 168(18.6,-3.75) 169(18.6,-3.25) 170(18.6,-2.75) 171(18.6,-2.25) 172(18.6,-1.75) 173(18.6,-1.25) 174(18.6,-0.75) 175(18.6,-0.25) 176(18.6,0.25) 177(18.6,0.75) 178(18.6,1.25) 179(18.6,1.75) 180(18.6,2.25) 181(18.6,2.75) 182(18.6,3.25) 183(18.6,3.75) 184(18.6,4.25) 185(18.6,4.75) 186(18.6,5.25) 187(18.6,5.75) 188(18.6,6.25) 189(18.6,6.75) 190(18.6,7.25) 191(18.6,7.75) 192(18.6,8.25) 193(18.6,8.75) 194(18.6,9.25) 195(18.6,9.75) 196(18.6,10.25) 197(18.6,10.75) 198(18.6,11.25) 199(18.6,11.75) 200(18.6,12.25) 201(18.6,12.75) 202(18.6,13.25) 203(18.6,13.75) 204(18.6,14.25) 205(18.6,14.75) 206(18.6,15.25) 207(18.6,15.75) 208(18.6,16.25) 209(18.6,16.75) 210(18.6,17.25)
  rect 0.3x1.6 smd: 71(-17.25,-18.6) 72(-16.75,-18.6) 73(-16.25,-18.6) 74(-15.75,-18.6) 75(-15.25,-18.6) 76(-14.75,-18.6) 77(-14.25,-18.6) 78(-13.75,-18.6) 79(-13.25,-18.6) 80(-12.75,-18.6) 81(-12.25,-18.6) 82(-11.75,-18.6) 83(-11.25,-18.6) 84(-10.75,-18.6) 85(-10.25,-18.6) 86(-9.75,-18.6) 87(-9.25,-18.6) 88(-8.75,-18.6) 89(-8.25,-18.6) 90(-7.75,-18.6) 91(-7.25,-18.6) 92(-6.75,-18.6) 93(-6.25,-18.6) 94(-5.75,-18.6) 95(-5.25,-18.6) 96(-4.75,-18.6) 97(-4.25,-18.6) 98(-3.75,-18.6) 99(-3.25,-18.6) 100(-2.75,-18.6) 101(-2.25,-18.6) 102(-1.75,-18.6) 103(-1.25,-18.6) 104(-0.75,-18.6) 105(-0.25,-18.6) 106(0.25,-18.6) 107(0.75,-18.6) 108(1.25,-18.6) 109(1.75,-18.6) 110(2.25,-18.6) 111(2.75,-18.6) 112(3.25,-18.6) 113(3.75,-18.6) 114(4.25,-18.6) 115(4.75,-18.6) 116(5.25,-18.6) 117(5.75,-18.6) 118(6.25,-18.6) 119(6.75,-18.6) 120(7.25,-18.6) 121(7.75,-18.6) 122(8.25,-18.6) 123(8.75,-18.6) 124(9.25,-18.6) 125(9.75,-18.6) 126(10.25,-18.6) 127(10.75,-18.6) 128(11.25,-18.6) 129(11.75,-18.6) 130(12.25,-18.6) 131(12.75,-18.6) 132(13.25,-18.6) 133(13.75,-18.6) 134(14.25,-18.6) 135(14.75,-18.6) 136(15.25,-18.6) 137(15.75,-18.6) 138(16.25,-18.6) 139(16.75,-18.6) 140(17.25,-18.6) 211(17.25,18.6) 212(16.75,18.6) 213(16.25,18.6) 214(15.75,18.6) 215(15.25,18.6) 216(14.75,18.6) 217(14.25,18.6) 218(13.75,18.6) 219(13.25,18.6) 220(12.75,18.6) 221(12.25,18.6) 222(11.75,18.6) 223(11.25,18.6) 224(10.75,18.6) 225(10.25,18.6) 226(9.75,18.6) 227(9.25,18.6) 228(8.75,18.6) 229(8.25,18.6) 230(7.75,18.6) 231(7.25,18.6) 232(6.75,18.6) 233(6.25,18.6) 234(5.75,18.6) 235(5.25,18.6) 236(4.75,18.6) 237(4.25,18.6) 238(3.75,18.6) 239(3.25,18.6) 240(2.75,18.6) 241(2.25,18.6) 242(1.75,18.6) 243(1.25,18.6) 244(0.75,18.6) 245(0.25,18.6) 246(-0.25,18.6) 247(-0.75,18.6) 248(-1.25,18.6) 249(-1.75,18.6) 250(-2.25,18.6) 251(-2.75,18.6) 252(-3.25,18.6) 253(-3.75,18.6) 254(-4.25,18.6) 255(-4.75,18.6) 256(-5.25,18.6) 257(-5.75,18.6) 258(-6.25,18.6) 259(-6.75,18.6) 260(-7.25,18.6) 261(-7.75,18.6) 262(-8.25,18.6) 263(-8.75,18.6) 264(-9.25,18.6) 265(-9.75,18.6) 266(-10.25,18.6) 267(-10.75,18.6) 268(-11.25,18.6) 269(-11.75,18.6) 270(-12.25,18.6) 271(-12.75,18.6) 272(-13.25,18.6) 273(-13.75,18.6) 274(-14.25,18.6) 275(-14.75,18.6) 276(-15.25,18.6) 277(-15.75,18.6) 278(-16.25,18.6) 279(-16.75,18.6) 280(-17.25,18.6)
Top Overlay:
  circle w0.25: c-19.96,17.25 r0.125
  lines w0.2: -17.4,-17.4 17.4,-17.4 17.4,17.4 -17.4,17.4 -17.4,-17.4

## F-QFP40x40-G304/N [mm] "QFP; 304 Leads; Body 40 x 40 mm; Pitch 0.5 mm"
height 4.2
pads (304):
  rect 1.6x0.3 smd: 1(-20.6,18.75) 2(-20.6,18.25) 3(-20.6,17.75) 4(-20.6,17.25) 5(-20.6,16.75) 6(-20.6,16.25) 7(-20.6,15.75) 8(-20.6,15.25) 9(-20.6,14.75) 10(-20.6,14.25) 11(-20.6,13.75) 12(-20.6,13.25) 13(-20.6,12.75) 14(-20.6,12.25) 15(-20.6,11.75) 16(-20.6,11.25) 17(-20.6,10.75) 18(-20.6,10.25) 19(-20.6,9.75) 20(-20.6,9.25) 21(-20.6,8.75) 22(-20.6,8.25) 23(-20.6,7.75) 24(-20.6,7.25) 25(-20.6,6.75) 26(-20.6,6.25) 27(-20.6,5.75) 28(-20.6,5.25) 29(-20.6,4.75) 30(-20.6,4.25) 31(-20.6,3.75) 32(-20.6,3.25) 33(-20.6,2.75) 34(-20.6,2.25) 35(-20.6,1.75) 36(-20.6,1.25) 37(-20.6,0.75) 38(-20.6,0.25) 39(-20.6,-0.25) 40(-20.6,-0.75) 41(-20.6,-1.25) 42(-20.6,-1.75) 43(-20.6,-2.25) 44(-20.6,-2.75) 45(-20.6,-3.25) 46(-20.6,-3.75) 47(-20.6,-4.25) 48(-20.6,-4.75) 49(-20.6,-5.25) 50(-20.6,-5.75) 51(-20.6,-6.25) 52(-20.6,-6.75) 53(-20.6,-7.25) 54(-20.6,-7.75) 55(-20.6,-8.25) 56(-20.6,-8.75) 57(-20.6,-9.25) 58(-20.6,-9.75) 59(-20.6,-10.25) 60(-20.6,-10.75) 61(-20.6,-11.25) 62(-20.6,-11.75) 63(-20.6,-12.25) 64(-20.6,-12.75) 65(-20.6,-13.25) 66(-20.6,-13.75) 67(-20.6,-14.25) 68(-20.6,-14.75) 69(-20.6,-15.25) 70(-20.6,-15.75) 71(-20.6,-16.25) 72(-20.6,-16.75) 73(-20.6,-17.25) 74(-20.6,-17.75) 75(-20.6,-18.25) 76(-20.6,-18.75) 153(20.6,-18.75) 154(20.6,-18.25) 155(20.6,-17.75) 156(20.6,-17.25) 157(20.6,-16.75) 158(20.6,-16.25) 159(20.6,-15.75) 160(20.6,-15.25) 161(20.6,-14.75) 162(20.6,-14.25) 163(20.6,-13.75) 164(20.6,-13.25) 165(20.6,-12.75) 166(20.6,-12.25) 167(20.6,-11.75) 168(20.6,-11.25) 169(20.6,-10.75) 170(20.6,-10.25) 171(20.6,-9.75) 172(20.6,-9.25) 173(20.6,-8.75) 174(20.6,-8.25) 175(20.6,-7.75) 176(20.6,-7.25) 177(20.6,-6.75) 178(20.6,-6.25) 179(20.6,-5.75) 180(20.6,-5.25) 181(20.6,-4.75) 182(20.6,-4.25) 183(20.6,-3.75) 184(20.6,-3.25) 185(20.6,-2.75) 186(20.6,-2.25) 187(20.6,-1.75) 188(20.6,-1.25) 189(20.6,-0.75) 190(20.6,-0.25) 191(20.6,0.25) 192(20.6,0.75) 193(20.6,1.25) 194(20.6,1.75) 195(20.6,2.25) 196(20.6,2.75) 197(20.6,3.25) 198(20.6,3.75) 199(20.6,4.25) 200(20.6,4.75) 201(20.6,5.25) 202(20.6,5.75) 203(20.6,6.25) 204(20.6,6.75) 205(20.6,7.25) 206(20.6,7.75) 207(20.6,8.25) 208(20.6,8.75) 209(20.6,9.25) 210(20.6,9.75) 211(20.6,10.25) 212(20.6,10.75) 213(20.6,11.25) 214(20.6,11.75) 215(20.6,12.25) 216(20.6,12.75) 217(20.6,13.25) 218(20.6,13.75) 219(20.6,14.25) 220(20.6,14.75) 221(20.6,15.25) 222(20.6,15.75) 223(20.6,16.25) 224(20.6,16.75) 225(20.6,17.25) 226(20.6,17.75) 227(20.6,18.25) 228(20.6,18.75)
  rect 0.3x1.6 smd: 77(-18.75,-20.6) 78(-18.25,-20.6) 79(-17.75,-20.6) 80(-17.25,-20.6) 81(-16.75,-20.6) 82(-16.25,-20.6) 83(-15.75,-20.6) 84(-15.25,-20.6) 85(-14.75,-20.6) 86(-14.25,-20.6) 87(-13.75,-20.6) 88(-13.25,-20.6) 89(-12.75,-20.6) 90(-12.25,-20.6) 91(-11.75,-20.6) 92(-11.25,-20.6) 93(-10.75,-20.6) 94(-10.25,-20.6) 95(-9.75,-20.6) 96(-9.25,-20.6) 97(-8.75,-20.6) 98(-8.25,-20.6) 99(-7.75,-20.6) 100(-7.25,-20.6) 101(-6.75,-20.6) 102(-6.25,-20.6) 103(-5.75,-20.6) 104(-5.25,-20.6) 105(-4.75,-20.6) 106(-4.25,-20.6) 107(-3.75,-20.6) 108(-3.25,-20.6) 109(-2.75,-20.6) 110(-2.25,-20.6) 111(-1.75,-20.6) 112(-1.25,-20.6) 113(-0.75,-20.6) 114(-0.25,-20.6) 115(0.25,-20.6) 116(0.75,-20.6) 117(1.25,-20.6) 118(1.75,-20.6) 119(2.25,-20.6) 120(2.75,-20.6) 121(3.25,-20.6) 122(3.75,-20.6) 123(4.25,-20.6) 124(4.75,-20.6) 125(5.25,-20.6) 126(5.75,-20.6) 127(6.25,-20.6) 128(6.75,-20.6) 129(7.25,-20.6) 130(7.75,-20.6) 131(8.25,-20.6) 132(8.75,-20.6) 133(9.25,-20.6) 134(9.75,-20.6) 135(10.25,-20.6) 136(10.75,-20.6) 137(11.25,-20.6) 138(11.75,-20.6) 139(12.25,-20.6) 140(12.75,-20.6) 141(13.25,-20.6) 142(13.75,-20.6) 143(14.25,-20.6) 144(14.75,-20.6) 145(15.25,-20.6) 146(15.75,-20.6) 147(16.25,-20.6) 148(16.75,-20.6) 149(17.25,-20.6) 150(17.75,-20.6) 151(18.25,-20.6) 152(18.75,-20.6) 229(18.75,20.6) 230(18.25,20.6) 231(17.75,20.6) 232(17.25,20.6) 233(16.75,20.6) 234(16.25,20.6) 235(15.75,20.6) 236(15.25,20.6) 237(14.75,20.6) 238(14.25,20.6) 239(13.75,20.6) 240(13.25,20.6) 241(12.75,20.6) 242(12.25,20.6) 243(11.75,20.6) 244(11.25,20.6) 245(10.75,20.6) 246(10.25,20.6) 247(9.75,20.6) 248(9.25,20.6) 249(8.75,20.6) 250(8.25,20.6) 251(7.75,20.6) 252(7.25,20.6) 253(6.75,20.6) 254(6.25,20.6) 255(5.75,20.6) 256(5.25,20.6) 257(4.75,20.6) 258(4.25,20.6) 259(3.75,20.6) 260(3.25,20.6) 261(2.75,20.6) 262(2.25,20.6) 263(1.75,20.6) 264(1.25,20.6) 265(0.75,20.6) 266(0.25,20.6) 267(-0.25,20.6) 268(-0.75,20.6) 269(-1.25,20.6) 270(-1.75,20.6) 271(-2.25,20.6) 272(-2.75,20.6) 273(-3.25,20.6) 274(-3.75,20.6) 275(-4.25,20.6) 276(-4.75,20.6) 277(-5.25,20.6) 278(-5.75,20.6) 279(-6.25,20.6) 280(-6.75,20.6) 281(-7.25,20.6) 282(-7.75,20.6) 283(-8.25,20.6) 284(-8.75,20.6) 285(-9.25,20.6) 286(-9.75,20.6) 287(-10.25,20.6) 288(-10.75,20.6) 289(-11.25,20.6) 290(-11.75,20.6) 291(-12.25,20.6) 292(-12.75,20.6) 293(-13.25,20.6) 294(-13.75,20.6) 295(-14.25,20.6) 296(-14.75,20.6) 297(-15.25,20.6) 298(-15.75,20.6) 299(-16.25,20.6) 300(-16.75,20.6) 301(-17.25,20.6) 302(-17.75,20.6) 303(-18.25,20.6) 304(-18.75,20.6)
Top Overlay:
  circle w0.25: c-21.96,18.75 r0.125
  lines w0.2: -19.4,-19.4 19.4,-19.4 19.4,19.4 -19.4,19.4 -19.4,-19.4

## F-QFP40x40-G304/P.5N [mm] "304-Pin Power Quad Flat Pack (RQFP)"
height 4.5
pads (304):
  rect 1.6x0.3 smd: 1(-20.9,18.75) 2(-20.9,18.25) 3(-20.9,17.75) 4(-20.9,17.25) 5(-20.9,16.75) 6(-20.9,16.25) 7(-20.9,15.75) 8(-20.9,15.25) 9(-20.9,14.75) 10(-20.9,14.25) 11(-20.9,13.75) 12(-20.9,13.25) 13(-20.9,12.75) 14(-20.9,12.25) 15(-20.9,11.75) 16(-20.9,11.25) 17(-20.9,10.75) 18(-20.9,10.25) 19(-20.9,9.75) 20(-20.9,9.25) 21(-20.9,8.75) 22(-20.9,8.25) 23(-20.9,7.75) 24(-20.9,7.25) 25(-20.9,6.75) 26(-20.9,6.25) 27(-20.9,5.75) 28(-20.9,5.25) 29(-20.9,4.75) 30(-20.9,4.25) 31(-20.9,3.75) 32(-20.9,3.25) 33(-20.9,2.75) 34(-20.9,2.25) 35(-20.9,1.75) 36(-20.9,1.25) 37(-20.9,0.75) 38(-20.9,0.25) 39(-20.9,-0.25) 40(-20.9,-0.75) 41(-20.9,-1.25) 42(-20.9,-1.75) 43(-20.9,-2.25) 44(-20.9,-2.75) 45(-20.9,-3.25) 46(-20.9,-3.75) 47(-20.9,-4.25) 48(-20.9,-4.75) 49(-20.9,-5.25) 50(-20.9,-5.75) 51(-20.9,-6.25) 52(-20.9,-6.75) 53(-20.9,-7.25) 54(-20.9,-7.75) 55(-20.9,-8.25) 56(-20.9,-8.75) 57(-20.9,-9.25) 58(-20.9,-9.75) 59(-20.9,-10.25) 60(-20.9,-10.75) 61(-20.9,-11.25) 62(-20.9,-11.75) 63(-20.9,-12.25) 64(-20.9,-12.75) 65(-20.9,-13.25) 66(-20.9,-13.75) 67(-20.9,-14.25) 68(-20.9,-14.75) 69(-20.9,-15.25) 70(-20.9,-15.75) 71(-20.9,-16.25) 72(-20.9,-16.75) 73(-20.9,-17.25) 74(-20.9,-17.75) 75(-20.9,-18.25) 76(-20.9,-18.75) 153(20.9,-18.75) 154(20.9,-18.25) 155(20.9,-17.75) 156(20.9,-17.25) 157(20.9,-16.75) 158(20.9,-16.25) 159(20.9,-15.75) 160(20.9,-15.25) 161(20.9,-14.75) 162(20.9,-14.25) 163(20.9,-13.75) 164(20.9,-13.25) 165(20.9,-12.75) 166(20.9,-12.25) 167(20.9,-11.75) 168(20.9,-11.25) 169(20.9,-10.75) 170(20.9,-10.25) 171(20.9,-9.75) 172(20.9,-9.25) 173(20.9,-8.75) 174(20.9,-8.25) 175(20.9,-7.75) 176(20.9,-7.25) 177(20.9,-6.75) 178(20.9,-6.25) 179(20.9,-5.75) 180(20.9,-5.25) 181(20.9,-4.75) 182(20.9,-4.25) 183(20.9,-3.75) 184(20.9,-3.25) 185(20.9,-2.75) 186(20.9,-2.25) 187(20.9,-1.75) 188(20.9,-1.25) 189(20.9,-0.75) 190(20.9,-0.25) 191(20.9,0.25) 192(20.9,0.75) 193(20.9,1.25) 194(20.9,1.75) 195(20.9,2.25) 196(20.9,2.75) 197(20.9,3.25) 198(20.9,3.75) 199(20.9,4.25) 200(20.9,4.75) 201(20.9,5.25) 202(20.9,5.75) 203(20.9,6.25) 204(20.9,6.75) 205(20.9,7.25) 206(20.9,7.75) 207(20.9,8.25) 208(20.9,8.75) 209(20.9,9.25) 210(20.9,9.75) 211(20.9,10.25) 212(20.9,10.75) 213(20.9,11.25) 214(20.9,11.75) 215(20.9,12.25) 216(20.9,12.75) 217(20.9,13.25) 218(20.9,13.75) 219(20.9,14.25) 220(20.9,14.75) 221(20.9,15.25) 222(20.9,15.75) 223(20.9,16.25) 224(20.9,16.75) 225(20.9,17.25) 226(20.9,17.75) 227(20.9,18.25) 228(20.9,18.75)
  rect 0.3x1.6 smd: 77(-18.75,-20.9) 78(-18.25,-20.9) 79(-17.75,-20.9) 80(-17.25,-20.9) 81(-16.75,-20.9) 82(-16.25,-20.9) 83(-15.75,-20.9) 84(-15.25,-20.9) 85(-14.75,-20.9) 86(-14.25,-20.9) 87(-13.75,-20.9) 88(-13.25,-20.9) 89(-12.75,-20.9) 90(-12.25,-20.9) 91(-11.75,-20.9) 92(-11.25,-20.9) 93(-10.75,-20.9) 94(-10.25,-20.9) 95(-9.75,-20.9) 96(-9.25,-20.9) 97(-8.75,-20.9) 98(-8.25,-20.9) 99(-7.75,-20.9) 100(-7.25,-20.9) 101(-6.75,-20.9) 102(-6.25,-20.9) 103(-5.75,-20.9) 104(-5.25,-20.9) 105(-4.75,-20.9) 106(-4.25,-20.9) 107(-3.75,-20.9) 108(-3.25,-20.9) 109(-2.75,-20.9) 110(-2.25,-20.9) 111(-1.75,-20.9) 112(-1.25,-20.9) 113(-0.75,-20.9) 114(-0.25,-20.9) 115(0.25,-20.9) 116(0.75,-20.9) 117(1.25,-20.9) 118(1.75,-20.9) 119(2.25,-20.9) 120(2.75,-20.9) 121(3.25,-20.9) 122(3.75,-20.9) 123(4.25,-20.9) 124(4.75,-20.9) 125(5.25,-20.9) 126(5.75,-20.9) 127(6.25,-20.9) 128(6.75,-20.9) 129(7.25,-20.9) 130(7.75,-20.9) 131(8.25,-20.9) 132(8.75,-20.9) 133(9.25,-20.9) 134(9.75,-20.9) 135(10.25,-20.9) 136(10.75,-20.9) 137(11.25,-20.9) 138(11.75,-20.9) 139(12.25,-20.9) 140(12.75,-20.9) 141(13.25,-20.9) 142(13.75,-20.9) 143(14.25,-20.9) 144(14.75,-20.9) 145(15.25,-20.9) 146(15.75,-20.9) 147(16.25,-20.9) 148(16.75,-20.9) 149(17.25,-20.9) 150(17.75,-20.9) 151(18.25,-20.9) 152(18.75,-20.9) 229(18.75,20.9) 230(18.25,20.9) 231(17.75,20.9) 232(17.25,20.9) 233(16.75,20.9) 234(16.25,20.9) 235(15.75,20.9) 236(15.25,20.9) 237(14.75,20.9) 238(14.25,20.9) 239(13.75,20.9) 240(13.25,20.9) 241(12.75,20.9) 242(12.25,20.9) 243(11.75,20.9) 244(11.25,20.9) 245(10.75,20.9) 246(10.25,20.9) 247(9.75,20.9) 248(9.25,20.9) 249(8.75,20.9) 250(8.25,20.9) 251(7.75,20.9) 252(7.25,20.9) 253(6.75,20.9) 254(6.25,20.9) 255(5.75,20.9) 256(5.25,20.9) 257(4.75,20.9) 258(4.25,20.9) 259(3.75,20.9) 260(3.25,20.9) 261(2.75,20.9) 262(2.25,20.9) 263(1.75,20.9) 264(1.25,20.9) 265(0.75,20.9) 266(0.25,20.9) 267(-0.25,20.9) 268(-0.75,20.9) 269(-1.25,20.9) 270(-1.75,20.9) 271(-2.25,20.9) 272(-2.75,20.9) 273(-3.25,20.9) 274(-3.75,20.9) 275(-4.25,20.9) 276(-4.75,20.9) 277(-5.25,20.9) 278(-5.75,20.9) 279(-6.25,20.9) 280(-6.75,20.9) 281(-7.25,20.9) 282(-7.75,20.9) 283(-8.25,20.9) 284(-8.75,20.9) 285(-9.25,20.9) 286(-9.75,20.9) 287(-10.25,20.9) 288(-10.75,20.9) 289(-11.25,20.9) 290(-11.75,20.9) 291(-12.25,20.9) 292(-12.75,20.9) 293(-13.25,20.9) 294(-13.75,20.9) 295(-14.25,20.9) 296(-14.75,20.9) 297(-15.25,20.9) 298(-15.75,20.9) 299(-16.25,20.9) 300(-16.75,20.9) 301(-17.25,20.9) 302(-17.75,20.9) 303(-18.25,20.9) 304(-18.75,20.9)
Top Overlay:
  circle w0.25: c-20.9,19.45 r0.125
  lines w0.2: -19.7,-19.7 19.7,-19.7 19.7,19.7 -19.7,19.7 -19.7,-19.7

## F-QFP40x40-G312/N [mm] "QFP; 312 Leads; Body 40 x 40 mm; Pitch 0.5 mm"
height 4.2
pads (312):
  rect 1.6x0.3 smd: 1(-20.6,19.25) 2(-20.6,18.75) 3(-20.6,18.25) 4(-20.6,17.75) 5(-20.6,17.25) 6(-20.6,16.75) 7(-20.6,16.25) 8(-20.6,15.75) 9(-20.6,15.25) 10(-20.6,14.75) 11(-20.6,14.25) 12(-20.6,13.75) 13(-20.6,13.25) 14(-20.6,12.75) 15(-20.6,12.25) 16(-20.6,11.75) 17(-20.6,11.25) 18(-20.6,10.75) 19(-20.6,10.25) 20(-20.6,9.75) 21(-20.6,9.25) 22(-20.6,8.75) 23(-20.6,8.25) 24(-20.6,7.75) 25(-20.6,7.25) 26(-20.6,6.75) 27(-20.6,6.25) 28(-20.6,5.75) 29(-20.6,5.25) 30(-20.6,4.75) 31(-20.6,4.25) 32(-20.6,3.75) 33(-20.6,3.25) 34(-20.6,2.75) 35(-20.6,2.25) 36(-20.6,1.75) 37(-20.6,1.25) 38(-20.6,0.75) 39(-20.6,0.25) 40(-20.6,-0.25) 41(-20.6,-0.75) 42(-20.6,-1.25) 43(-20.6,-1.75) 44(-20.6,-2.25) 45(-20.6,-2.75) 46(-20.6,-3.25) 47(-20.6,-3.75) 48(-20.6,-4.25) 49(-20.6,-4.75) 50(-20.6,-5.25) 51(-20.6,-5.75) 52(-20.6,-6.25) 53(-20.6,-6.75) 54(-20.6,-7.25) 55(-20.6,-7.75) 56(-20.6,-8.25) 57(-20.6,-8.75) 58(-20.6,-9.25) 59(-20.6,-9.75) 60(-20.6,-10.25) 61(-20.6,-10.75) 62(-20.6,-11.25) 63(-20.6,-11.75) 64(-20.6,-12.25) 65(-20.6,-12.75) 66(-20.6,-13.25) 67(-20.6,-13.75) 68(-20.6,-14.25) 69(-20.6,-14.75) 70(-20.6,-15.25) 71(-20.6,-15.75) 72(-20.6,-16.25) 73(-20.6,-16.75) 74(-20.6,-17.25) 75(-20.6,-17.75) 76(-20.6,-18.25) 77(-20.6,-18.75) 78(-20.6,-19.25) 157(20.6,-19.25) 158(20.6,-18.75) 159(20.6,-18.25) 160(20.6,-17.75) 161(20.6,-17.25) 162(20.6,-16.75) 163(20.6,-16.25) 164(20.6,-15.75) 165(20.6,-15.25) 166(20.6,-14.75) 167(20.6,-14.25) 168(20.6,-13.75) 169(20.6,-13.25) 170(20.6,-12.75) 171(20.6,-12.25) 172(20.6,-11.75) 173(20.6,-11.25) 174(20.6,-10.75) 175(20.6,-10.25) 176(20.6,-9.75) 177(20.6,-9.25) 178(20.6,-8.75) 179(20.6,-8.25) 180(20.6,-7.75) 181(20.6,-7.25) 182(20.6,-6.75) 183(20.6,-6.25) 184(20.6,-5.75) 185(20.6,-5.25) 186(20.6,-4.75) 187(20.6,-4.25) 188(20.6,-3.75) 189(20.6,-3.25) 190(20.6,-2.75) 191(20.6,-2.25) 192(20.6,-1.75) 193(20.6,-1.25) 194(20.6,-0.75) 195(20.6,-0.25) 196(20.6,0.25) 197(20.6,0.75) 198(20.6,1.25) 199(20.6,1.75) 200(20.6,2.25) 201(20.6,2.75) 202(20.6,3.25) 203(20.6,3.75) 204(20.6,4.25) 205(20.6,4.75) 206(20.6,5.25) 207(20.6,5.75) 208(20.6,6.25) 209(20.6,6.75) 210(20.6,7.25) 211(20.6,7.75) 212(20.6,8.25) 213(20.6,8.75) 214(20.6,9.25) 215(20.6,9.75) 216(20.6,10.25) 217(20.6,10.75) 218(20.6,11.25) 219(20.6,11.75) 220(20.6,12.25) 221(20.6,12.75) 222(20.6,13.25) 223(20.6,13.75) 224(20.6,14.25) 225(20.6,14.75) 226(20.6,15.25) 227(20.6,15.75) 228(20.6,16.25) 229(20.6,16.75) 230(20.6,17.25) 231(20.6,17.75) 232(20.6,18.25) 233(20.6,18.75) 234(20.6,19.25)
  rect 0.3x1.6 smd: 79(-19.25,-20.6) 80(-18.75,-20.6) 81(-18.25,-20.6) 82(-17.75,-20.6) 83(-17.25,-20.6) 84(-16.75,-20.6) 85(-16.25,-20.6) 86(-15.75,-20.6) 87(-15.25,-20.6) 88(-14.75,-20.6) 89(-14.25,-20.6) 90(-13.75,-20.6) 91(-13.25,-20.6) 92(-12.75,-20.6) 93(-12.25,-20.6) 94(-11.75,-20.6) 95(-11.25,-20.6) 96(-10.75,-20.6) 97(-10.25,-20.6) 98(-9.75,-20.6) 99(-9.25,-20.6) 100(-8.75,-20.6) 101(-8.25,-20.6) 102(-7.75,-20.6) 103(-7.25,-20.6) 104(-6.75,-20.6) 105(-6.25,-20.6) 106(-5.75,-20.6) 107(-5.25,-20.6) 108(-4.75,-20.6) 109(-4.25,-20.6) 110(-3.75,-20.6) 111(-3.25,-20.6) 112(-2.75,-20.6) 113(-2.25,-20.6) 114(-1.75,-20.6) 115(-1.25,-20.6) 116(-0.75,-20.6) 117(-0.25,-20.6) 118(0.25,-20.6) 119(0.75,-20.6) 120(1.25,-20.6) 121(1.75,-20.6) 122(2.25,-20.6) 123(2.75,-20.6) 124(3.25,-20.6) 125(3.75,-20.6) 126(4.25,-20.6) 127(4.75,-20.6) 128(5.25,-20.6) 129(5.75,-20.6) 130(6.25,-20.6) 131(6.75,-20.6) 132(7.25,-20.6) 133(7.75,-20.6) 134(8.25,-20.6) 135(8.75,-20.6) 136(9.25,-20.6) 137(9.75,-20.6) 138(10.25,-20.6) 139(10.75,-20.6) 140(11.25,-20.6) 141(11.75,-20.6) 142(12.25,-20.6) 143(12.75,-20.6) 144(13.25,-20.6) 145(13.75,-20.6) 146(14.25,-20.6) 147(14.75,-20.6) 148(15.25,-20.6) 149(15.75,-20.6) 150(16.25,-20.6) 151(16.75,-20.6) 152(17.25,-20.6) 153(17.75,-20.6) 154(18.25,-20.6) 155(18.75,-20.6) 156(19.25,-20.6) 235(19.25,20.6) 236(18.75,20.6) 237(18.25,20.6) 238(17.75,20.6) 239(17.25,20.6) 240(16.75,20.6) 241(16.25,20.6) 242(15.75,20.6) 243(15.25,20.6) 244(14.75,20.6) 245(14.25,20.6) 246(13.75,20.6) 247(13.25,20.6) 248(12.75,20.6) 249(12.25,20.6) 250(11.75,20.6) 251(11.25,20.6) 252(10.75,20.6) 253(10.25,20.6) 254(9.75,20.6) 255(9.25,20.6) 256(8.75,20.6) 257(8.25,20.6) 258(7.75,20.6) 259(7.25,20.6) 260(6.75,20.6) 261(6.25,20.6) 262(5.75,20.6) 263(5.25,20.6) 264(4.75,20.6) 265(4.25,20.6) 266(3.75,20.6) 267(3.25,20.6) 268(2.75,20.6) 269(2.25,20.6) 270(1.75,20.6) 271(1.25,20.6) 272(0.75,20.6) 273(0.25,20.6) 274(-0.25,20.6) 275(-0.75,20.6) 276(-1.25,20.6) 277(-1.75,20.6) 278(-2.25,20.6) 279(-2.75,20.6) 280(-3.25,20.6) 281(-3.75,20.6) 282(-4.25,20.6) 283(-4.75,20.6) 284(-5.25,20.6) 285(-5.75,20.6) 286(-6.25,20.6) 287(-6.75,20.6) 288(-7.25,20.6) 289(-7.75,20.6) 290(-8.25,20.6) 291(-8.75,20.6) 292(-9.25,20.6) 293(-9.75,20.6) 294(-10.25,20.6) 295(-10.75,20.6) 296(-11.25,20.6) 297(-11.75,20.6) 298(-12.25,20.6) 299(-12.75,20.6) 300(-13.25,20.6) 301(-13.75,20.6) 302(-14.25,20.6) 303(-14.75,20.6) 304(-15.25,20.6) 305(-15.75,20.6) 306(-16.25,20.6) 307(-16.75,20.6) 308(-17.25,20.6) 309(-17.75,20.6) 310(-18.25,20.6) 311(-18.75,20.6) 312(-19.25,20.6)
Top Overlay:
  circle w0.25: c-21.96,19.25 r0.125
  lines w0.2: -19.4,-19.4 -19.4,19.4 19.4,19.4 19.4,-19.4 -19.4,-19.4